# EAGLE library part RES-NET-745C101103JP (library eagleparts)
Res Thick Film Array 1K Ohm 5% 1/2W Â±200ppm/Â°C BUS Molded 10-Pin 2512 Concave SMD Plastic T/R
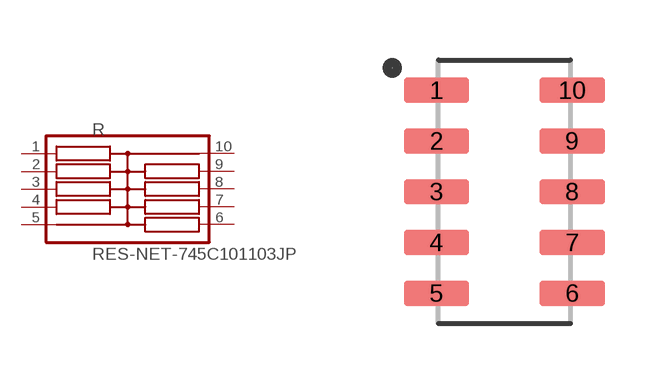
[diagram p7: symbol with the pads of RESCAV127P640X310X70-10N; footprint RESCAV127P640X310X70-10N]

Designator prefix R

## RES-NET-745C101103JP (MANUFACTURER: CTS; PARTREV: K; STANDARD: IPC-7351B)  [RESCAV127P640X310X70-10N]
1  1  pas
2  2  pas
3  3  pas
4  4  pas
5  5  pas
6  6  pas
7  7  pas
8  8  pas
9  9  pas
10  10  pas

## Footprint RESCAV127P640X310X70-10N (pad centres in mm)
smd 1.63 x 0.63: 1 -1.695,2.54; 2 -1.695,1.27; 3 -1.695,0; 4 -1.695,-1.27; 5 -1.695,-2.54; 6 1.695,-2.54; 7 1.695,-1.27; 8 1.695,0; 9 1.695,1.27; 10 1.695,2.54